# EAGLE library part REGULATOR_STARY (library DEEP_MainBoard)
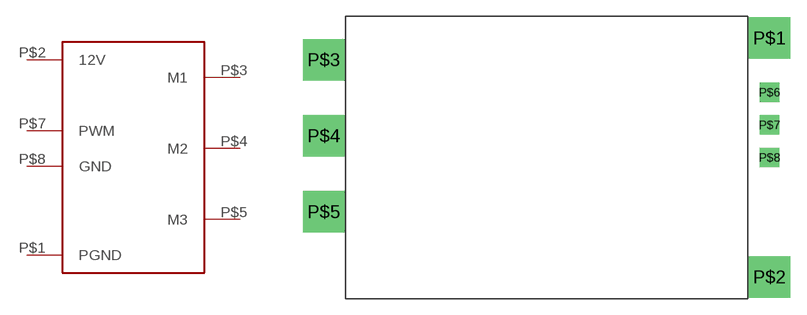
[diagram p8: symbol with the pads of REGULATOR_STARY; footprint REGULATOR_STARY]

Designator prefix -

## REGULATOR_STARY  [REGULATOR_STARY]
P$1  PGND
P$2  12V
P$3  M1
P$4  M2
P$5  M3
P$7  PWM
P$8  GND

## Footprint REGULATOR_STARY (pad centres in mm)
drill 1 pad 3.81 square: P$1 39,24; P$2 39,2; P$3 -2,22; P$4 -2,15; P$5 -2,8
drill 1 pad 1.778 square: P$6 39,19; P$7 39,16; P$8 39,13